# Altium schematic symbol library MC100EP195B.SchLib: 1 symbol
Pins are listed as number, name and electrical type; pins without a type are passive.

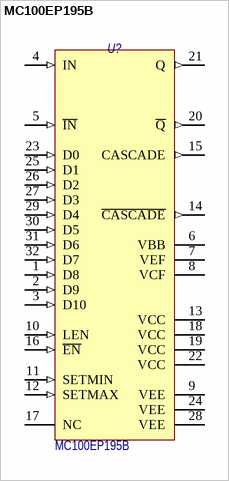
[diagram p0: symbol MC100EP195B]

## MC100EP195B
designator U?
3.3V ECL Programmable Delay Chip; Потребление: 0,56; Назначение: 3.3V ECL Programmable Delay Chip; Наименование: MC100EP195B
footprint QFN-32 (QFN, 32-Leads, Body 5,00x5,00mm, Pitch 0,50mm, Thermal Pad 3,10x3,10mm, IPC Medium Density)
footprint LQFP-32_0.8 (LQFP, 32-Leads, Body 7,00x7,00mm, Pitch 0,80mm, IPC Medium Density)
pins: 1 D8 (in), 2 D9 (in), 3 D10 (in), 4 IN (in), 5 ~{IN} (in), 6 VBB (power), 7 VEF (power), 8 VCF (power), 9 VEE (power), 10 LEN (in), 11 SETMIN (in), 12 SETMAX (in), 13 VCC (power), 14 ~{CASCADE} (out), 15 CASCADE (out), 16 ~{EN} (in), 17 NC (power), 18 VCC (power), 19 VCC (power), 20 ~{Q} (out), 21 Q (out), 22 VCC (power), 23 D0 (in), 24 VEE (power), 25 D1 (in), 26 D2 (in), 27 D3 (in), 28 VEE (power), 29 D4 (in), 30 D5 (in), 31 D6 (in), 32 D7 (in)